# EAGLE library part PCM1789-Q1 (library RalimTek)
24-Bit, 192-kHz Sampling, Enhanced Multi-Level ΔΣ, Stereo, Audio Digital-to-Analog Converter http://www.ti.com/lit/ds/symlink/pcm1789-q1.pdf *Not Tested in production*
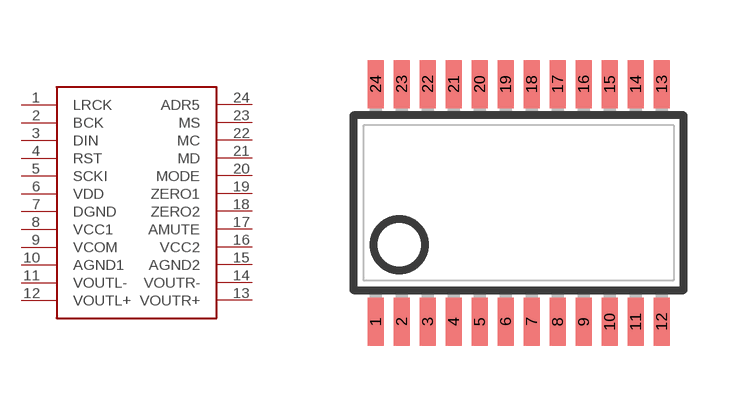
[diagram p9: symbol with the pads of TSSOP24L; footprint TSSOP24L]

Designator prefix -

## PCM1789-Q1TSSOP  [TSSOP24L]
1  LRCK
2  BCK
3  DIN
4  RST
5  SCKI
6  VDD
7  DGND
8  VCC1
9  VCOM
10  AGND1
11  VOUTL-
12  VOUTL+
13  VOUTR+
14  VOUTR-
15  AGND2
16  VCC2
17  AMUTE
18  ZERO2
19  ZERO1
20  MODE
21  MD
22  MC
23  MS
24  ADR5

## Footprint TSSOP24L (pad centres in mm)
Small Shrink Outline Package JEDEC MO-153
smd 0.4 x 1.2: 1 -3.575,-2.97; 2 -2.925,-2.97; 3 -2.275,-2.97; 4 -1.625,-2.97; 5 -0.975,-2.97; 6 -0.325,-2.97; 7 0.325,-2.97; 8 0.975,-2.97; 9 1.625,-2.97; 10 2.275,-2.97; 11 2.925,-2.97; 12 3.575,-2.97; 13 3.575,2.97; 14 2.925,2.97; 15 2.275,2.97; 16 1.625,2.97; 17 0.975,2.97; 18 0.325,2.97; 19 -0.325,2.97; 20 -0.975,2.97; 21 -1.625,2.97; 22 -2.275,2.97; 23 -2.925,2.97; 24 -3.575,2.97